# Altium footprint library ATMEGA8A-AU.PcbLib: 1 footprints
Each footprint in its own frame and in the unit in brackets; x right, y up, seen from the top. Pads: shape width x height; smd on the part's side, far side on the other; paste and mask are expansions set on the pad; w line width, h text height; cw(c..) or ccw(c..) is an arc to the next point about the centre after c.
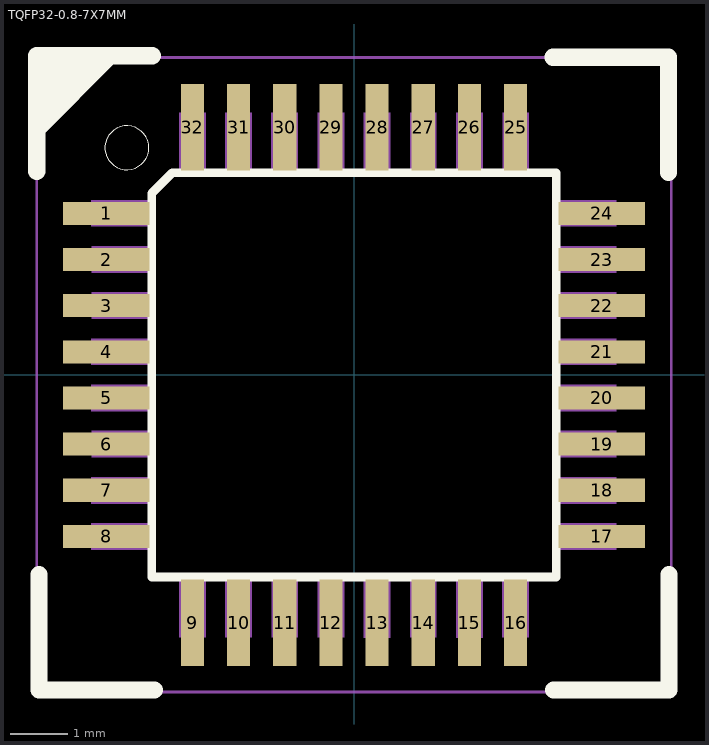
[diagram p0: the footprint, top view; thin cyan lines are the x and y axes]

## TQFP32-0.8-7X7MM [mm]
pads (32):
  rect 1.5x0.4 smd: 1(-4.293,2.8) 2(-4.293,2) 3(-4.293,1.2) 4(-4.293,0.4) 5(-4.293,-0.4) 6(-4.293,-1.2) 7(-4.293,-2) 8(-4.293,-2.8) 17(4.293,-2.8) 18(4.293,-2) 19(4.293,-1.2) 20(4.293,-0.4) 21(4.293,0.4) 22(4.293,1.2) 23(4.293,2) 24(4.293,2.8)
  rect 0.4x1.5 smd: 9(-2.8,-4.293) 10(-2,-4.293) 11(-1.2,-4.293) 12(-0.4,-4.293) 13(0.4,-4.293) 14(1.2,-4.293) 15(2,-4.293) 16(2.8,-4.293) 25(2.8,4.293) 26(2,4.293) 27(1.2,4.293) 28(0.4,4.293) 29(-0.4,4.293) 30(-1.2,4.293) 31(-2,4.293) 32(-2.8,4.293)
Top Overlay:
  circle w0: c-3.937,3.937 r0.381
  lines w0.152: -3.505,-3.505 -3.505,3.15 -3.15,3.505 3.505,3.505 3.505,-3.505 -3.505,-3.505
  lines w0.3: -5.499,3.531 -5.499,5.531 -3.499,5.531 ; -5.499,4.261 -4.229,5.531 ; -5.461,-3.461 -5.461,-5.461 -3.461,-5.461 ; -5.372,5.404 -5.003,5.404 -5.499,4.908 -5.499,4.531 -4.759,5.272 ; 3.451,5.508 5.451,5.508 5.451,3.508 ; 3.461,-5.461 5.461,-5.461 5.461,-3.461
  lines w0.6: -5.251,5.156 -5.135,5.272 -4.759,5.272
Mechanical 13:
  region: -2.571,3.557 -3.029,3.557 -3.029,4.547 -2.571,4.547
  region: -1.771,3.557 -2.229,3.557 -2.229,4.547 -1.771,4.547
  region: -0.971,3.561 -1.431,3.561 -1.431,4.547 -0.971,4.547
  region: -0.171,3.561 -0.629,3.561 -0.629,4.547 -0.171,4.547
  region: 0.629,3.56 0.172,3.56 0.172,4.547 0.629,4.547
  region: 1.429,3.557 0.972,3.557 0.972,4.547 1.429,4.547
  region: 2.229,3.56 1.773,3.56 1.773,4.547 2.229,4.547
  region: 3.029,3.56 2.574,3.56 2.574,4.547 3.029,4.547
  region: 4.547,2.574 3.559,2.574 3.559,3.029 4.547,3.029
  region: 4.547,1.772 3.558,1.772 3.558,2.229 4.547,2.229
  region: 4.547,0.972 3.557,0.972 3.557,1.429 4.547,1.429
  region: 4.547,0.172 3.562,0.172 3.562,0.629 4.547,0.629
  region: 4.547,-0.629 3.558,-0.629 3.558,-0.171 4.547,-0.171
  region: 4.547,-1.43 3.559,-1.43 3.559,-0.971 4.547,-0.971
  region: 4.547,-2.231 3.56,-2.231 3.56,-1.771 4.547,-1.771
  region: 4.547,-3.031 3.559,-3.031 3.559,-2.571 4.547,-2.571
  region: 3.029,-4.551 2.574,-4.551 2.574,-3.556 3.029,-3.556
  region: 2.229,-4.554 1.774,-4.554 1.774,-3.556 2.229,-3.556
  region: 1.429,-4.551 0.972,-4.551 0.972,-3.556 1.429,-3.556
  region: 0.629,-4.554 0.172,-4.554 0.172,-3.556 0.629,-3.556
  region: -0.171,-4.549 -0.629,-4.549 -0.629,-3.556 -0.171,-3.556
  region: -0.971,-4.547 -1.429,-4.547 -1.429,-3.556 -0.971,-3.556
  region: -1.771,-4.55 -2.23,-4.55 -2.23,-3.556 -1.771,-3.556
  region: -2.571,-4.547 -3.029,-4.547 -3.029,-3.556 -2.571,-3.556
  region: -3.556,-3.032 -4.552,-3.032 -4.552,-2.571 -3.556,-2.571
  region: -3.556,-2.232 -4.553,-2.232 -4.553,-1.771 -3.556,-1.771
  region: -3.556,-1.429 -4.548,-1.429 -4.548,-0.971 -3.556,-0.971
  region: -3.556,-0.629 -4.553,-0.629 -4.553,-0.171 -3.556,-0.171
  region: -3.556,0.172 -4.551,0.172 -4.551,0.629 -3.556,0.629
  region: -3.556,0.971 -4.547,0.971 -4.547,1.429 -3.556,1.429
  region: -3.556,1.773 -4.55,1.773 -4.55,2.229 -3.556,2.229
  region: -3.556,2.574 -4.551,2.574 -4.551,3.029 -3.556,3.029
Mechanical 15:
  lines w0.05: -5.5,-5.5 -5.5,5.5 5.5,5.5 5.5,-5.5 -5.5,-5.5
3D body "step_temp.STEP": height 1.21, standoff 0.01, extent -4.5,-4.5 4.5,4.5